# Altium footprint library RT9187.PcbLib: 2 footprints
Each footprint in its own frame and in the unit in brackets; x right, y up, seen from the top. Pads: shape width x height; smd on the part's side, far side on the other; paste and mask are expansions set on the pad; w line width, h text height; cw(c..) or ccw(c..) is an arc to the next point about the centre after c.
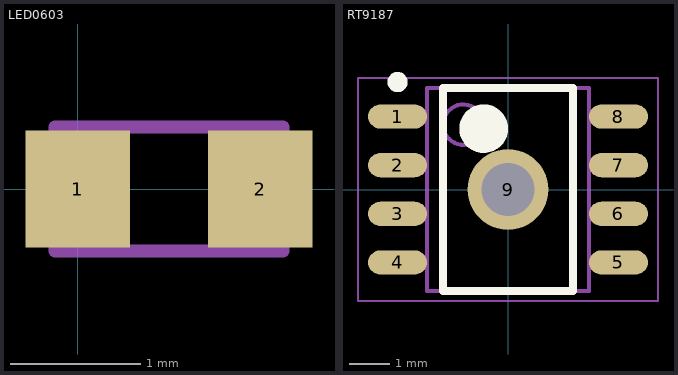
[diagram p0: the footprints below, top view; thin cyan lines are the x and y axes]

## LED0603 [mm]
pads (2):
  rect 0.8x0.9 smd: 1(0,0) 2(1.4,0)
Mechanical 13:
  lines w0.1: -0.175,-0.475 1.575,-0.475 1.575,0.475 -0.175,0.475 -0.175,-0.475
3D body: height 1.3, standoff 0, extent -0.175,-0.475 1.575,0.475

## RT9187 [mm]
pads (9):
  oval 1.45x0.6 smd: 1(-2.725,1.8) 2(-2.725,0.6) 3(-2.725,-0.6) 4(-2.725,-1.8) 5(2.725,-1.8) 6(2.725,-0.6) 7(2.725,0.6) 8(2.725,1.8)
  round 2 hole 1.3: 9(0,0)
Top Overlay:
  circle w0.6: c-0.6,1.5 r0.3
  circle w0.25: c-2.725,2.65 r0.125
  lines w0.2: -1.6,-2.5 1.6,-2.5 1.6,2.5 -1.6,2.5 -1.6,-2.5
Mechanical 13:
  circle w0.1: c-1.1,1.6 r0.5
  lines w0.1: -2,-2.5 2,-2.5 2,2.5 -2,2.5 -2,-2.5
Mechanical 15:
  lines w0.05: -3.7,-2.75 3.7,-2.75 3.7,2.75 -3.7,2.75 -3.7,-2.75
  lines w0.1: -0.5,0 0.5,0 ; 0,-0.5 0,0.5
3D body: height 1.76, standoff 0.15, extent -2,-2.5 2,2.5